# Altium footprint library AL11b.PcbLib: 10 footprints
Each footprint in its own frame and in the unit in brackets; x right, y up, seen from the top. Pads: shape width x height; smd on the part's side, far side on the other; paste and mask are expansions set on the pad; w line width, h text height; cw(c..) or ccw(c..) is an arc to the next point about the centre after c.
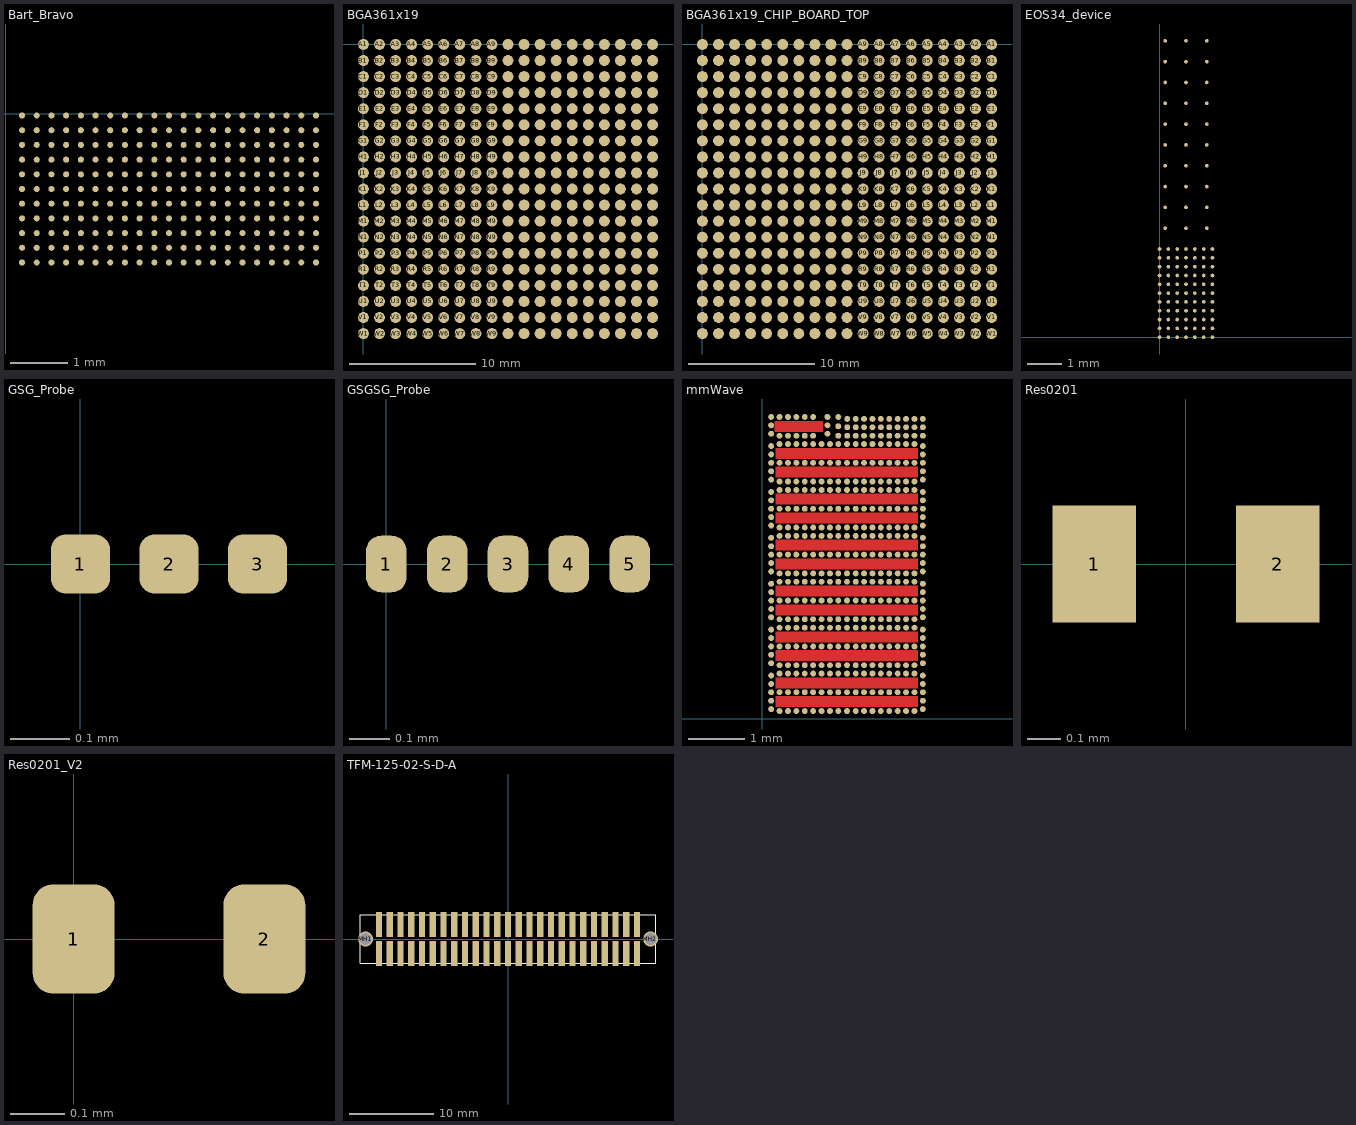
[diagram p0: the footprints below, top view; thin cyan lines are the x and y axes]

## Bart_Bravo [mm] "Footprint for the 11 row, 21 column pad array used in Bravo Bart designs"
height 0.1
pads (231):
  round 0.105 smd mask-0.015: A1(0.286,-0.032) A2(0.286,-0.286) A3(0.286,-0.54) A4(0.286,-0.794) A5(0.286,-1.048) A6(0.286,-1.302) A7(0.286,-1.556) A8(0.286,-1.81) A9(0.286,-2.064) A10(0.286,-2.318) A11(0.286,-2.572) B1(0.54,-0.032) B2(0.54,-0.286) B3(0.54,-0.54) B4(0.54,-0.794) B5(0.54,-1.048) B6(0.54,-1.302) B7(0.54,-1.556) B8(0.54,-1.81) B9(0.54,-2.064) B10(0.54,-2.318) B11(0.54,-2.572) C1(0.794,-0.032) C2(0.794,-0.286) C3(0.794,-0.54) C4(0.794,-0.794) C5(0.794,-1.048) C6(0.794,-1.302) C7(0.794,-1.556) C8(0.794,-1.81) C9(0.794,-2.064) C10(0.794,-2.318) C11(0.794,-2.572) D1(1.048,-0.032) D2(1.048,-0.286) D3(1.048,-0.54) D4(1.048,-0.794) D5(1.048,-1.048) D6(1.048,-1.302) D7(1.048,-1.556) D8(1.048,-1.81) D9(1.048,-2.064) D10(1.048,-2.318) D11(1.048,-2.572) E1(1.302,-0.032) E2(1.302,-0.286) E3(1.302,-0.54) E4(1.302,-0.794) E5(1.302,-1.048) E6(1.302,-1.302) E7(1.302,-1.556) E8(1.302,-1.81) E9(1.302,-2.064) E10(1.302,-2.318) E11(1.302,-2.572) F1(1.556,-0.032) F2(1.556,-0.286) F3(1.556,-0.54) F4(1.556,-0.794) F5(1.556,-1.048) F6(1.556,-1.302) F7(1.556,-1.556) F8(1.556,-1.81) F9(1.556,-2.064) F10(1.556,-2.318) F11(1.556,-2.572) G1(1.81,-0.032) G2(1.81,-0.286) G3(1.81,-0.54) G4(1.81,-0.794) G5(1.81,-1.048) G6(1.81,-1.302) G7(1.81,-1.556) G8(1.81,-1.81) G9(1.81,-2.064) G10(1.81,-2.318) G11(1.81,-2.572) H1(2.064,-0.032) H2(2.064,-0.286) H3(2.064,-0.54) H4(2.064,-0.794) H5(2.064,-1.048) H6(2.064,-1.302) H7(2.064,-1.556) H8(2.064,-1.81) H9(2.064,-2.064) H10(2.064,-2.318) H11(2.064,-2.572) I1(2.318,-0.032) I2(2.318,-0.286) I3(2.318,-0.54) I4(2.318,-0.794) I5(2.318,-1.048) I6(2.318,-1.302) I7(2.318,-1.556) I8(2.318,-1.81) I9(2.318,-2.064) I10(2.318,-2.318) I11(2.318,-2.572) J1(2.572,-0.032) J2(2.572,-0.286) J3(2.572,-0.54) J4(2.572,-0.794) J5(2.572,-1.048) J6(2.572,-1.302) J7(2.572,-1.556) J8(2.572,-1.81) J9(2.572,-2.064) J10(2.572,-2.318) J11(2.572,-2.572) K1(2.826,-0.032) K2(2.826,-0.286) K3(2.826,-0.54) K4(2.826,-0.794) K5(2.826,-1.048) K6(2.826,-1.302) K7(2.826,-1.556) K8(2.826,-1.81) K9(2.826,-2.064) K10(2.826,-2.318) K11(2.826,-2.572) L1(3.08,-0.032) L2(3.08,-0.286) L3(3.08,-0.54) L4(3.08,-0.794) L5(3.08,-1.048) L6(3.08,-1.302) L7(3.08,-1.556) L8(3.08,-1.81) L9(3.08,-2.064) L10(3.08,-2.318) L11(3.08,-2.572) M1(3.334,-0.032) M2(3.334,-0.286) M3(3.334,-0.54) M4(3.334,-0.794) M5(3.334,-1.048) M6(3.334,-1.302) M7(3.334,-1.556) M8(3.334,-1.81) M9(3.334,-2.064) M10(3.334,-2.318) M11(3.334,-2.572) N1(3.588,-0.032) N2(3.588,-0.286) N3(3.588,-0.54) N4(3.588,-0.794) N5(3.588,-1.048) N6(3.588,-1.302) N7(3.588,-1.556) N8(3.588,-1.81) N9(3.588,-2.064) N10(3.588,-2.318) N11(3.588,-2.572) O1(3.842,-0.032) O2(3.842,-0.286) O3(3.842,-0.54) O4(3.842,-0.794) O5(3.842,-1.048) O6(3.842,-1.302) O7(3.842,-1.556) O8(3.842,-1.81) O9(3.842,-2.064) O10(3.842,-2.318) O11(3.842,-2.572) P1(4.096,-0.032) P2(4.096,-0.286) P3(4.096,-0.54) P4(4.096,-0.794) P5(4.096,-1.048) P6(4.096,-1.302) P7(4.096,-1.556) P8(4.096,-1.81) P9(4.096,-2.064) P10(4.096,-2.318) P11(4.096,-2.572) Q1(4.35,-0.032) Q2(4.35,-0.286) Q3(4.35,-0.54) Q4(4.35,-0.794) Q5(4.35,-1.048) Q6(4.35,-1.302) Q7(4.35,-1.556) Q8(4.35,-1.81) Q9(4.35,-2.064) Q10(4.35,-2.318) Q11(4.35,-2.572) R1(4.604,-0.032) R2(4.604,-0.286) R3(4.604,-0.54) R4(4.604,-0.794) R5(4.604,-1.048) R6(4.604,-1.302) R7(4.604,-1.556) R8(4.604,-1.81) R9(4.604,-2.064) R10(4.604,-2.318) R11(4.604,-2.572) S1(4.858,-0.032) S2(4.858,-0.286) S3(4.858,-0.54) S4(4.858,-0.794) S5(4.858,-1.048) S6(4.858,-1.302) S7(4.858,-1.556) S8(4.858,-1.81) S9(4.858,-2.064) S10(4.858,-2.318) S11(4.858,-2.572) T1(5.112,-0.032) T2(5.112,-0.286) T3(5.112,-0.54) T4(5.112,-0.794) T5(5.112,-1.048) T6(5.112,-1.302) T7(5.112,-1.556) T8(5.112,-1.81) T9(5.112,-2.064) T10(5.112,-2.318) T11(5.112,-2.572) U1(5.366,-0.032) U2(5.366,-0.286) U3(5.366,-0.54) U4(5.366,-0.794) U5(5.366,-1.048) U6(5.366,-1.302) U7(5.366,-1.556) U8(5.366,-1.81) U9(5.366,-2.064) U10(5.366,-2.318) U11(5.366,-2.572)

## BGA361x19 [mm]
pads (361):
  round 0.86 smd mask-0.05: A1(0,0) A2(1.27,0) A3(2.54,0) A4(3.81,0) A5(5.08,0) A6(6.35,0) A7(7.62,0) A8(8.89,0) A9(10.16,0) A10(11.43,0) A11(12.7,0) A12(13.97,0) A13(15.24,0) A14(16.51,0) A15(17.78,0) A16(19.05,0) A17(20.32,0) A18(21.59,0) A19(22.86,0) B1(0,-1.27) B2(1.27,-1.27) B3(2.54,-1.27) B4(3.81,-1.27) B5(5.08,-1.27) B6(6.35,-1.27) B7(7.62,-1.27) B8(8.89,-1.27) B9(10.16,-1.27) B10(11.43,-1.27) B11(12.7,-1.27) B12(13.97,-1.27) B13(15.24,-1.27) B14(16.51,-1.27) B15(17.78,-1.27) B16(19.05,-1.27) B17(20.32,-1.27) B18(21.59,-1.27) B19(22.86,-1.27) C1(0,-2.54) C2(1.27,-2.54) C3(2.54,-2.54) C4(3.81,-2.54) C5(5.08,-2.54) C6(6.35,-2.54) C7(7.62,-2.54) C8(8.89,-2.54) C9(10.16,-2.54) C10(11.43,-2.54) C11(12.7,-2.54) C12(13.97,-2.54) C13(15.24,-2.54) C14(16.51,-2.54) C15(17.78,-2.54) C16(19.05,-2.54) C17(20.32,-2.54) C18(21.59,-2.54) C19(22.86,-2.54) D1(0,-3.81) D2(1.27,-3.81) D3(2.54,-3.81) D4(3.81,-3.81) D5(5.08,-3.81) D6(6.35,-3.81) D7(7.62,-3.81) D8(8.89,-3.81) D9(10.16,-3.81) D10(11.43,-3.81) D11(12.7,-3.81) D12(13.97,-3.81) D13(15.24,-3.81) D14(16.51,-3.81) D15(17.78,-3.81) D16(19.05,-3.81) D17(20.32,-3.81) D18(21.59,-3.81) D19(22.86,-3.81) E1(0,-5.08) E2(1.27,-5.08) E3(2.54,-5.08) E4(3.81,-5.08) E5(5.08,-5.08) E6(6.35,-5.08) E7(7.62,-5.08) E8(8.89,-5.08) E9(10.16,-5.08) E10(11.43,-5.08) E11(12.7,-5.08) E12(13.97,-5.08) E13(15.24,-5.08) E14(16.51,-5.08) E15(17.78,-5.08) E16(19.05,-5.08) E17(20.32,-5.08) E18(21.59,-5.08) E19(22.86,-5.08) F1(0,-6.35) F2(1.27,-6.35) F3(2.54,-6.35) F4(3.81,-6.35) F5(5.08,-6.35) F6(6.35,-6.35) F7(7.62,-6.35) F8(8.89,-6.35) F9(10.16,-6.35) F10(11.43,-6.35) F11(12.7,-6.35) F12(13.97,-6.35) F13(15.24,-6.35) F14(16.51,-6.35) F15(17.78,-6.35) F16(19.05,-6.35) F17(20.32,-6.35) F18(21.59,-6.35) F19(22.86,-6.35) G1(0,-7.62) G2(1.27,-7.62) G3(2.54,-7.62) G4(3.81,-7.62) G5(5.08,-7.62) G6(6.35,-7.62) G7(7.62,-7.62) G8(8.89,-7.62) G9(10.16,-7.62) G10(11.43,-7.62) G11(12.7,-7.62) G12(13.97,-7.62) G13(15.24,-7.62) G14(16.51,-7.62) G15(17.78,-7.62) G16(19.05,-7.62) G17(20.32,-7.62) G18(21.59,-7.62) G19(22.86,-7.62) H1(0,-8.89) H2(1.27,-8.89) H3(2.54,-8.89) H4(3.81,-8.89) H5(5.08,-8.89) H6(6.35,-8.89) H7(7.62,-8.89) H8(8.89,-8.89) H9(10.16,-8.89) H10(11.43,-8.89) H11(12.7,-8.89) H12(13.97,-8.89) H13(15.24,-8.89) H14(16.51,-8.89) H15(17.78,-8.89) H16(19.05,-8.89) H17(20.32,-8.89) H18(21.59,-8.89) H19(22.86,-8.89) J1(0,-10.16) J2(1.27,-10.16) J3(2.54,-10.16) J4(3.81,-10.16) J5(5.08,-10.16) J6(6.35,-10.16) J7(7.62,-10.16) J8(8.89,-10.16) J9(10.16,-10.16) J10(11.43,-10.16) J11(12.7,-10.16) J12(13.97,-10.16) J13(15.24,-10.16) J14(16.51,-10.16) J15(17.78,-10.16) J16(19.05,-10.16) J17(20.32,-10.16) J18(21.59,-10.16) J19(22.86,-10.16) K1(0,-11.43) K2(1.27,-11.43) K3(2.54,-11.43) K4(3.81,-11.43) K5(5.08,-11.43) K6(6.35,-11.43) K7(7.62,-11.43) K8(8.89,-11.43) K9(10.16,-11.43) K10(11.43,-11.43) K11(12.7,-11.43) K12(13.97,-11.43) K13(15.24,-11.43) K14(16.51,-11.43) K15(17.78,-11.43) K16(19.05,-11.43) K17(20.32,-11.43) K18(21.59,-11.43) K19(22.86,-11.43) L1(0,-12.7) L2(1.27,-12.7) L3(2.54,-12.7) L4(3.81,-12.7) L5(5.08,-12.7) L6(6.35,-12.7) L7(7.62,-12.7) L8(8.89,-12.7) L9(10.16,-12.7) L10(11.43,-12.7) L11(12.7,-12.7) L12(13.97,-12.7) L13(15.24,-12.7) L14(16.51,-12.7) L15(17.78,-12.7) L16(19.05,-12.7) L17(20.32,-12.7) L18(21.59,-12.7) L19(22.86,-12.7) M1(0,-13.97) M2(1.27,-13.97) M3(2.54,-13.97) M4(3.81,-13.97) M5(5.08,-13.97) M6(6.35,-13.97) M7(7.62,-13.97) M8(8.89,-13.97) M9(10.16,-13.97) M10(11.43,-13.97) M11(12.7,-13.97) M12(13.97,-13.97) M13(15.24,-13.97) M14(16.51,-13.97) M15(17.78,-13.97) M16(19.05,-13.97) M17(20.32,-13.97) M18(21.59,-13.97) M19(22.86,-13.97) N1(0,-15.24) N2(1.27,-15.24) N3(2.54,-15.24) N4(3.81,-15.24) N5(5.08,-15.24) N6(6.35,-15.24) N7(7.62,-15.24) N8(8.89,-15.24) N9(10.16,-15.24) N10(11.43,-15.24) N11(12.7,-15.24) N12(13.97,-15.24) N13(15.24,-15.24) N14(16.51,-15.24) N15(17.78,-15.24) N16(19.05,-15.24) N17(20.32,-15.24) N18(21.59,-15.24) N19(22.86,-15.24) P1(0,-16.51) P2(1.27,-16.51) P3(2.54,-16.51) P4(3.81,-16.51) P5(5.08,-16.51) P6(6.35,-16.51) P7(7.62,-16.51) P8(8.89,-16.51) P9(10.16,-16.51) P10(11.43,-16.51) P11(12.7,-16.51) P12(13.97,-16.51) P13(15.24,-16.51) P14(16.51,-16.51) P15(17.78,-16.51) P16(19.05,-16.51) P17(20.32,-16.51) P18(21.59,-16.51) P19(22.86,-16.51) R1(0,-17.78) R2(1.27,-17.78) R3(2.54,-17.78) R4(3.81,-17.78) R5(5.08,-17.78) R6(6.35,-17.78) R7(7.62,-17.78) R8(8.89,-17.78) R9(10.16,-17.78) R10(11.43,-17.78) R11(12.7,-17.78) R12(13.97,-17.78) R13(15.24,-17.78) R14(16.51,-17.78) R15(17.78,-17.78) R16(19.05,-17.78) R17(20.32,-17.78) R18(21.59,-17.78) R19(22.86,-17.78) T1(0,-19.05) T2(1.27,-19.05) T3(2.54,-19.05) T4(3.81,-19.05) T5(5.08,-19.05) T6(6.35,-19.05) T7(7.62,-19.05) T8(8.89,-19.05) T9(10.16,-19.05) T10(11.43,-19.05) T11(12.7,-19.05) T12(13.97,-19.05) T13(15.24,-19.05) T14(16.51,-19.05) T15(17.78,-19.05) T16(19.05,-19.05) T17(20.32,-19.05) T18(21.59,-19.05) T19(22.86,-19.05) U1(0,-20.32) U2(1.27,-20.32) U3(2.54,-20.32) U4(3.81,-20.32) U5(5.08,-20.32) U6(6.35,-20.32) U7(7.62,-20.32) U8(8.89,-20.32) U9(10.16,-20.32) U10(11.43,-20.32) U11(12.7,-20.32) U12(13.97,-20.32) U13(15.24,-20.32) U14(16.51,-20.32) U15(17.78,-20.32) U16(19.05,-20.32) U17(20.32,-20.32) U18(21.59,-20.32) U19(22.86,-20.32) V1(0,-21.59) V2(1.27,-21.59) V3(2.54,-21.59) V4(3.81,-21.59) V5(5.08,-21.59) V6(6.35,-21.59) V7(7.62,-21.59) V8(8.89,-21.59) V9(10.16,-21.59) V10(11.43,-21.59) V11(12.7,-21.59) V12(13.97,-21.59) V13(15.24,-21.59) V14(16.51,-21.59) V15(17.78,-21.59) V16(19.05,-21.59) V17(20.32,-21.59) V18(21.59,-21.59) V19(22.86,-21.59) W1(0,-22.86) W2(1.27,-22.86) W3(2.54,-22.86) W4(3.81,-22.86) W5(5.08,-22.86) W6(6.35,-22.86) W7(7.62,-22.86) W8(8.89,-22.86) W9(10.16,-22.86) W10(11.43,-22.86) W11(12.7,-22.86) W12(13.97,-22.86) W13(15.24,-22.86) W14(16.51,-22.86) W15(17.78,-22.86) W16(19.05,-22.86) W17(20.32,-22.86) W18(21.59,-22.86) W19(22.86,-22.86)

## BGA361x19_CHIP_BOARD_TOP [mm]
pads (361):
  round 0.86 smd mask-0.05: A1(22.86,0) A2(21.59,0) A3(20.32,0) A4(19.05,0) A5(17.78,0) A6(16.51,0) A7(15.24,0) A8(13.97,0) A9(12.7,0) A10(11.43,0) A11(10.16,0) A12(8.89,0) A13(7.62,0) A14(6.35,0) A15(5.08,0) A16(3.81,0) A17(2.54,0) A18(1.27,0) A19(0,0) B1(22.86,-1.27) B2(21.59,-1.27) B3(20.32,-1.27) B4(19.05,-1.27) B5(17.78,-1.27) B6(16.51,-1.27) B7(15.24,-1.27) B8(13.97,-1.27) B9(12.7,-1.27) B10(11.43,-1.27) B11(10.16,-1.27) B12(8.89,-1.27) B13(7.62,-1.27) B14(6.35,-1.27) B15(5.08,-1.27) B16(3.81,-1.27) B17(2.54,-1.27) B18(1.27,-1.27) B19(0,-1.27) C1(22.86,-2.54) C2(21.59,-2.54) C3(20.32,-2.54) C4(19.05,-2.54) C5(17.78,-2.54) C6(16.51,-2.54) C7(15.24,-2.54) C8(13.97,-2.54) C9(12.7,-2.54) C10(11.43,-2.54) C11(10.16,-2.54) C12(8.89,-2.54) C13(7.62,-2.54) C14(6.35,-2.54) C15(5.08,-2.54) C16(3.81,-2.54) C17(2.54,-2.54) C18(1.27,-2.54) C19(0,-2.54) D1(22.86,-3.81) D2(21.59,-3.81) D3(20.32,-3.81) D4(19.05,-3.81) D5(17.78,-3.81) D6(16.51,-3.81) D7(15.24,-3.81) D8(13.97,-3.81) D9(12.7,-3.81) D10(11.43,-3.81) D11(10.16,-3.81) D12(8.89,-3.81) D13(7.62,-3.81) D14(6.35,-3.81) D15(5.08,-3.81) D16(3.81,-3.81) D17(2.54,-3.81) D18(1.27,-3.81) D19(0,-3.81) E1(22.86,-5.08) E2(21.59,-5.08) E3(20.32,-5.08) E4(19.05,-5.08) E5(17.78,-5.08) E6(16.51,-5.08) E7(15.24,-5.08) E8(13.97,-5.08) E9(12.7,-5.08) E10(11.43,-5.08) E11(10.16,-5.08) E12(8.89,-5.08) E13(7.62,-5.08) E14(6.35,-5.08) E15(5.08,-5.08) E16(3.81,-5.08) E17(2.54,-5.08) E18(1.27,-5.08) E19(0,-5.08) F1(22.86,-6.35) F2(21.59,-6.35) F3(20.32,-6.35) F4(19.05,-6.35) F5(17.78,-6.35) F6(16.51,-6.35) F7(15.24,-6.35) F8(13.97,-6.35) F9(12.7,-6.35) F10(11.43,-6.35) F11(10.16,-6.35) F12(8.89,-6.35) F13(7.62,-6.35) F14(6.35,-6.35) F15(5.08,-6.35) F16(3.81,-6.35) F17(2.54,-6.35) F18(1.27,-6.35) F19(0,-6.35) G1(22.86,-7.62) G2(21.59,-7.62) G3(20.32,-7.62) G4(19.05,-7.62) G5(17.78,-7.62) G6(16.51,-7.62) G7(15.24,-7.62) G8(13.97,-7.62) G9(12.7,-7.62) G10(11.43,-7.62) G11(10.16,-7.62) G12(8.89,-7.62) G13(7.62,-7.62) G14(6.35,-7.62) G15(5.08,-7.62) G16(3.81,-7.62) G17(2.54,-7.62) G18(1.27,-7.62) G19(0,-7.62) H1(22.86,-8.89) H2(21.59,-8.89) H3(20.32,-8.89) H4(19.05,-8.89) H5(17.78,-8.89) H6(16.51,-8.89) H7(15.24,-8.89) H8(13.97,-8.89) H9(12.7,-8.89) H10(11.43,-8.89) H11(10.16,-8.89) H12(8.89,-8.89) H13(7.62,-8.89) H14(6.35,-8.89) H15(5.08,-8.89) H16(3.81,-8.89) H17(2.54,-8.89) H18(1.27,-8.89) H19(0,-8.89) J1(22.86,-10.16) J2(21.59,-10.16) J3(20.32,-10.16) J4(19.05,-10.16) J5(17.78,-10.16) J6(16.51,-10.16) J7(15.24,-10.16) J8(13.97,-10.16) J9(12.7,-10.16) J10(11.43,-10.16) J11(10.16,-10.16) J12(8.89,-10.16) J13(7.62,-10.16) J14(6.35,-10.16) J15(5.08,-10.16) J16(3.81,-10.16) J17(2.54,-10.16) J18(1.27,-10.16) J19(0,-10.16) K1(22.86,-11.43) K2(21.59,-11.43) K3(20.32,-11.43) K4(19.05,-11.43) K5(17.78,-11.43) K6(16.51,-11.43) K7(15.24,-11.43) K8(13.97,-11.43) K9(12.7,-11.43) K10(11.43,-11.43) K11(10.16,-11.43) K12(8.89,-11.43) K13(7.62,-11.43) K14(6.35,-11.43) K15(5.08,-11.43) K16(3.81,-11.43) K17(2.54,-11.43) K18(1.27,-11.43) K19(0,-11.43) L1(22.86,-12.7) L2(21.59,-12.7) L3(20.32,-12.7) L4(19.05,-12.7) L5(17.78,-12.7) L6(16.51,-12.7) L7(15.24,-12.7) L8(13.97,-12.7) L9(12.7,-12.7) L10(11.43,-12.7) L11(10.16,-12.7) L12(8.89,-12.7) L13(7.62,-12.7) L14(6.35,-12.7) L15(5.08,-12.7) L16(3.81,-12.7) L17(2.54,-12.7) L18(1.27,-12.7) L19(0,-12.7) M1(22.86,-13.97) M2(21.59,-13.97) M3(20.32,-13.97) M4(19.05,-13.97) M5(17.78,-13.97) M6(16.51,-13.97) M7(15.24,-13.97) M8(13.97,-13.97) M9(12.7,-13.97) M10(11.43,-13.97) M11(10.16,-13.97) M12(8.89,-13.97) M13(7.62,-13.97) M14(6.35,-13.97) M15(5.08,-13.97) M16(3.81,-13.97) M17(2.54,-13.97) M18(1.27,-13.97) M19(0,-13.97) N1(22.86,-15.24) N2(21.59,-15.24) N3(20.32,-15.24) N4(19.05,-15.24) N5(17.78,-15.24) N6(16.51,-15.24) N7(15.24,-15.24) N8(13.97,-15.24) N9(12.7,-15.24) N10(11.43,-15.24) N11(10.16,-15.24) N12(8.89,-15.24) N13(7.62,-15.24) N14(6.35,-15.24) N15(5.08,-15.24) N16(3.81,-15.24) N17(2.54,-15.24) N18(1.27,-15.24) N19(0,-15.24) P1(22.86,-16.51) P2(21.59,-16.51) P3(20.32,-16.51) P4(19.05,-16.51) P5(17.78,-16.51) P6(16.51,-16.51) P7(15.24,-16.51) P8(13.97,-16.51) P9(12.7,-16.51) P10(11.43,-16.51) P11(10.16,-16.51) P12(8.89,-16.51) P13(7.62,-16.51) P14(6.35,-16.51) P15(5.08,-16.51) P16(3.81,-16.51) P17(2.54,-16.51) P18(1.27,-16.51) P19(0,-16.51) R1(22.86,-17.78) R2(21.59,-17.78) R3(20.32,-17.78) R4(19.05,-17.78) R5(17.78,-17.78) R6(16.51,-17.78) R7(15.24,-17.78) R8(13.97,-17.78) R9(12.7,-17.78) R10(11.43,-17.78) R11(10.16,-17.78) R12(8.89,-17.78) R13(7.62,-17.78) R14(6.35,-17.78) R15(5.08,-17.78) R16(3.81,-17.78) R17(2.54,-17.78) R18(1.27,-17.78) R19(0,-17.78) T1(22.86,-19.05) T2(21.59,-19.05) T3(20.32,-19.05) T4(19.05,-19.05) T5(17.78,-19.05) T6(16.51,-19.05) T7(15.24,-19.05) T8(13.97,-19.05) T9(12.7,-19.05) T10(11.43,-19.05) T11(10.16,-19.05) T12(8.89,-19.05) T13(7.62,-19.05) T14(6.35,-19.05) T15(5.08,-19.05) T16(3.81,-19.05) T17(2.54,-19.05) T18(1.27,-19.05) T19(0,-19.05) U1(22.86,-20.32) U2(21.59,-20.32) U3(20.32,-20.32) U4(19.05,-20.32) U5(17.78,-20.32) U6(16.51,-20.32) U7(15.24,-20.32) U8(13.97,-20.32) U9(12.7,-20.32) U10(11.43,-20.32) U11(10.16,-20.32) U12(8.89,-20.32) U13(7.62,-20.32) U14(6.35,-20.32) U15(5.08,-20.32) U16(3.81,-20.32) U17(2.54,-20.32) U18(1.27,-20.32) U19(0,-20.32) V1(22.86,-21.59) V2(21.59,-21.59) V3(20.32,-21.59) V4(19.05,-21.59) V5(17.78,-21.59) V6(16.51,-21.59) V7(15.24,-21.59) V8(13.97,-21.59) V9(12.7,-21.59) V10(11.43,-21.59) V11(10.16,-21.59) V12(8.89,-21.59) V13(7.62,-21.59) V14(6.35,-21.59) V15(5.08,-21.59) V16(3.81,-21.59) V17(2.54,-21.59) V18(1.27,-21.59) V19(0,-21.59) W1(22.86,-22.86) W2(21.59,-22.86) W3(20.32,-22.86) W4(19.05,-22.86) W5(17.78,-22.86) W6(16.51,-22.86) W7(15.24,-22.86) W8(13.97,-22.86) W9(12.7,-22.86) W10(11.43,-22.86) W11(10.16,-22.86) W12(8.89,-22.86) W13(7.62,-22.86) W14(6.35,-22.86) W15(5.08,-22.86) W16(3.81,-22.86) W17(2.54,-22.86) W18(1.27,-22.86) W19(0,-22.86)

## EOS34_device [mm]
pads (107):
  round 0.105 smd mask-0.015: A1(1.524,0) A2(1.524,0.254) A3(1.524,0.508) A4(1.524,0.762) A5(1.524,1.016) A6(1.524,1.27) A7(1.524,1.524) A8(1.524,1.778) A9(1.524,2.032) A10(1.524,2.286) A11(1.524,2.54) B1(1.27,0) B2(1.27,0.254) B3(1.27,0.508) B4(1.27,0.762) B5(1.27,1.016) B6(1.27,1.27) B7(1.27,1.524) B8(1.27,1.778) B9(1.27,2.032) B10(1.27,2.286) B11(1.27,2.54) C1(1.016,0) C2(1.016,0.254) C3(1.016,0.508) C4(1.016,0.762) C5(1.016,1.016) C6(1.016,1.27) C7(1.016,1.524) C8(1.016,1.778) C9(1.016,2.032) C10(1.016,2.286) C11(1.016,2.54) D1(0.762,0) D2(0.762,0.254) D3(0.762,0.508) D4(0.762,0.762) D5(0.762,1.016) D6(0.762,1.27) D7(0.762,1.524) D8(0.762,1.778) D9(0.762,2.032) D10(0.762,2.286) D11(0.762,2.54) E1(0.508,0) E2(0.508,0.254) E3(0.508,0.508) E4(0.508,0.762) E5(0.508,1.016) E6(0.508,1.27) E7(0.508,1.524) E8(0.508,1.778) E9(0.508,2.032) E10(0.508,2.286) E11(0.508,2.54) F1(0.254,0) F2(0.254,0.254) F3(0.254,0.508) F4(0.254,0.762) F5(0.254,1.016) F6(0.254,1.27) F7(0.254,1.524) F8(0.254,1.778) F9(0.254,2.032) F10(0.254,2.286) F11(0.254,2.54) G1(0,0) G2(0,0.254) G3(0,0.508) G4(0,0.762) G5(0,1.016) G6(0,1.27) G7(0,1.524) G8(0,1.778) G9(0,2.032) G10(0,2.286) G11(0,2.54) X1(0.161,3.14) X2(0.161,3.74) X3(0.161,4.34) X4(0.161,4.94) X5(0.161,5.54) X6(0.161,6.14) X7(0.161,6.74) X8(0.161,7.34) X9(0.161,7.94) X10(0.161,8.54) Y1(0.761,3.14) Y2(0.761,3.74) Y3(0.761,4.34) Y4(0.761,4.94) Y5(0.761,5.54) Y6(0.761,6.14) Y7(0.761,6.74) Y8(0.761,7.34) Y9(0.761,7.94) Y10(0.761,8.54) Z1(1.361,3.14) Z2(1.361,3.74) Z3(1.361,4.34) Z4(1.361,4.94) Z5(1.361,5.54) Z6(1.361,6.14) Z7(1.361,6.74) Z8(1.361,7.34) Z9(1.361,7.94) Z10(1.361,8.54)

## GSG_Probe [mm] "150um pitch GSG probe pads"
pads (3):
  rrect50% 0.1x0.1 smd mask-1: 1(0,0) 2(0.15,0) 3(0.3,0)
Top Solder:
  region: 0.27,-0.015 0.27,0.015 0.27,0.018 0.273,0.023 0.277,0.027 0.282,0.03 0.285,0.03 0.315,0.03 0.318,0.03 0.323,0.027 0.327,0.023 0.33,0.018 0.33,0.015 0.33,-0.015 0.33,-0.018 0.327,-0.023 0.323,-0.027 0.318,-0.03 0.315,-0.03 0.285,-0.03 0.282,-0.03 0.277,-0.027 0.273,-0.023 0.27,-0.018
  region: 0.12,-0.015 0.12,0.015 0.12,0.018 0.123,0.023 0.127,0.027 0.132,0.03 0.135,0.03 0.165,0.03 0.168,0.03 0.173,0.027 0.177,0.023 0.18,0.018 0.18,0.015 0.18,-0.015 0.18,-0.018 0.177,-0.023 0.173,-0.027 0.168,-0.03 0.165,-0.03 0.135,-0.03 0.132,-0.03 0.127,-0.027 0.123,-0.023 0.12,-0.018
  region: -0.03,-0.015 -0.03,0.015 -0.03,0.018 -0.027,0.023 -0.023,0.027 -0.018,0.03 -0.015,0.03 0.015,0.03 0.018,0.03 0.023,0.027 0.027,0.023 0.03,0.018 0.03,0.015 0.03,-0.015 0.03,-0.018 0.027,-0.023 0.023,-0.027 0.018,-0.03 0.015,-0.03 -0.015,-0.03 -0.018,-0.03 -0.023,-0.027 -0.027,-0.023 -0.03,-0.018

## GSGSG_Probe [mm] "150um pitch dual GSG probe pads"
pads (5):
  rrect75% 0.1x0.14 smd mask-1: 1(0,0) 2(0.15,0) 3(0.3,0) 4(0.45,0) 5(0.6,0)
Top Solder:
  region: 0.57,-0.035 0.57,0.035 0.57,0.038 0.573,0.043 0.577,0.047 0.582,0.05 0.585,0.05 0.615,0.05 0.618,0.05 0.623,0.047 0.627,0.043 0.63,0.038 0.63,0.035 0.63,-0.035 0.63,-0.038 0.627,-0.043 0.623,-0.047 0.618,-0.05 0.615,-0.05 0.585,-0.05 0.582,-0.05 0.577,-0.047 0.573,-0.043 0.57,-0.038
  region: 0.42,-0.035 0.42,0.035 0.42,0.038 0.423,0.043 0.427,0.047 0.432,0.05 0.435,0.05 0.465,0.05 0.468,0.05 0.473,0.047 0.477,0.043 0.48,0.038 0.48,0.035 0.48,-0.035 0.48,-0.038 0.477,-0.043 0.473,-0.047 0.468,-0.05 0.465,-0.05 0.435,-0.05 0.432,-0.05 0.427,-0.047 0.423,-0.043 0.42,-0.038
  region: 0.27,-0.035 0.27,0.035 0.27,0.038 0.273,0.043 0.277,0.047 0.282,0.05 0.285,0.05 0.315,0.05 0.318,0.05 0.323,0.047 0.327,0.043 0.33,0.038 0.33,0.035 0.33,-0.035 0.33,-0.038 0.327,-0.043 0.323,-0.047 0.318,-0.05 0.315,-0.05 0.285,-0.05 0.282,-0.05 0.277,-0.047 0.273,-0.043 0.27,-0.038
  region: 0.12,-0.035 0.12,0.035 0.12,0.038 0.123,0.043 0.127,0.047 0.132,0.05 0.135,0.05 0.165,0.05 0.168,0.05 0.173,0.047 0.177,0.043 0.18,0.038 0.18,0.035 0.18,-0.035 0.18,-0.038 0.177,-0.043 0.173,-0.047 0.168,-0.05 0.165,-0.05 0.135,-0.05 0.132,-0.05 0.127,-0.047 0.123,-0.043 0.12,-0.038
  region: -0.03,-0.035 -0.03,0.035 -0.03,0.038 -0.027,0.043 -0.023,0.047 -0.018,0.05 -0.015,0.05 0.015,0.05 0.018,0.05 0.023,0.047 0.027,0.043 0.03,0.038 0.03,0.035 0.03,-0.035 0.03,-0.038 0.027,-0.043 0.023,-0.047 0.018,-0.05 0.015,-0.05 -0.015,-0.05 -0.018,-0.05 -0.023,-0.047 -0.027,-0.043 -0.03,-0.038

## mmWave [mm] "mmwave die"
height 0.02
pads (415):
  round 0.105 smd mask-0.015: 1(0.31,0.138) 2(0.46,0.138) 3(0.61,0.138) 4(0.76,0.138) 5(0.91,0.138) 6(1.06,0.138) 7(1.21,0.138) 8(1.36,0.138) 9(0.31,0.473) 10(0.46,0.473) 11(0.61,0.473) 12(0.76,0.473) 13(0.91,0.473) 14(1.06,0.473) 15(1.21,0.473) 16(1.36,0.473) 17(0.31,0.808) 18(0.46,0.808) 19(0.61,0.808) 20(0.76,0.808) 21(0.91,0.808) 22(1.06,0.808) 23(1.21,0.808) 24(1.36,0.808) 25(0.16,0.473) 26(0.16,0.323) 27(0.16,0.623) 28(0.16,0.173) 29(0.16,0.773) 30(0.31,0.958) 31(0.46,0.958) 32(0.61,0.958) 33(0.76,0.958) 34(0.91,0.958) 35(1.06,0.958) 36(1.21,0.958) 37(1.36,0.958) 38(0.31,1.293) 39(0.46,1.293) 40(0.61,1.293) 41(0.76,1.293) 42(0.91,1.293) 43(1.06,1.293) 44(1.21,1.293) 45(1.36,1.293) 46(0.31,1.628) 47(0.46,1.628) 48(0.61,1.628) 49(0.76,1.628) 50(0.91,1.628) 51(1.06,1.628) 52(1.21,1.628) 53(1.36,1.628) 54(0.16,1.293) 55(0.16,1.143) 56(0.16,1.443) 57(0.16,0.993) 58(0.16,1.593) 59(0.31,1.778) 60(0.46,1.778) 61(0.61,1.778) 62(0.76,1.778) 63(0.91,1.778) 64(1.06,1.778) 65(1.21,1.778) 66(1.36,1.778) 67(0.31,2.113) 68(0.46,2.113) 69(0.61,2.113) 70(0.76,2.113) 71(0.91,2.113) 72(1.06,2.113) 73(1.21,2.113) 74(1.36,2.113) 75(0.31,2.448) 76(0.46,2.448) 77(0.61,2.448) 78(0.76,2.448) 79(0.91,2.448) 80(1.06,2.448) 81(1.21,2.448) 82(1.36,2.448) 83(0.16,2.113) 84(0.16,1.963) 85(0.16,2.263) 86(0.16,1.813) 87(0.16,2.413) 88(0.31,2.598) 89(0.46,2.598) 90(0.61,2.598) 91(0.76,2.598) 92(0.91,2.598) 93(1.06,2.598) 94(1.21,2.598) 95(1.36,2.598) 96(0.31,2.933) 97(0.46,2.933) 98(0.61,2.933) 99(0.76,2.933) 100(0.91,2.933) 101(1.06,2.933) 102(1.21,2.933) 103(1.36,2.933) 104(0.31,3.268) 105(0.46,3.268) 106(0.61,3.268) 107(0.76,3.268) 108(0.91,3.268) 109(1.06,3.268) 110(1.21,3.268) 111(1.36,3.268) 112(0.16,2.933) 113(0.16,2.783) 114(0.16,3.083) 115(0.16,2.633) 116(0.16,3.233) 117(0.31,3.418) 118(0.46,3.418) 119(0.61,3.418) 120(0.76,3.418) 121(0.91,3.418) 122(1.06,3.418) 123(1.21,3.418) 124(1.36,3.418) 125(0.31,3.753) 126(0.46,3.753) 127(0.61,3.753) 128(0.76,3.753) 129(0.91,3.753) 130(1.06,3.753) 131(1.21,3.753) 132(1.36,3.753) 133(0.31,4.088) 134(0.46,4.088) 135(0.61,4.088) 136(0.76,4.088) 137(0.91,4.088) 138(1.06,4.088) 139(1.21,4.088) 140(1.36,4.088) 141(0.16,3.753) 142(0.16,3.603) 143(0.16,3.903) 144(0.16,3.453) 145(0.16,4.053) 146(0.31,4.238) 147(0.46,4.238) 148(0.61,4.238) 149(0.76,4.238) 150(0.91,4.238) 151(1.06,4.238) 152(1.21,4.238) 153(1.36,4.238) 154(0.31,4.573) 155(0.46,4.573) 156(0.61,4.573) 157(0.76,4.573) 158(0.91,4.573) 159(1.06,4.573) 160(1.21,4.573) 161(1.36,4.573) 162(0.31,4.908) 163(0.46,4.908) 164(0.61,4.908) 165(0.76,4.908) 166(0.91,4.908) 167(1.06,4.908) 168(1.21,4.908) 169(1.36,4.908) 170(0.16,4.573) 171(0.16,4.423) 172(0.16,4.723) 173(0.16,4.273) 174(0.16,4.873) 175(2.72,0.138) 176(2.57,0.138) 177(2.42,0.138) 178(2.27,0.138) 179(2.12,0.138) 180(1.97,0.138) 181(1.82,0.138) 182(1.67,0.138) 183(2.72,0.473) 184(2.57,0.473) 185(2.42,0.473) 186(2.27,0.473) 187(2.12,0.473) 188(1.97,0.473) 189(1.82,0.473) 190(1.67,0.473) 191(2.72,0.808) 192(2.57,0.808) 193(2.42,0.808) 194(2.27,0.808) 195(2.12,0.808) 196(1.97,0.808) 197(1.82,0.808) 198(1.67,0.808) 199(2.87,0.473) 200(2.87,0.323) 201(2.87,0.623) 202(2.87,0.173) 203(2.87,0.773) 204(2.72,0.958) 205(2.57,0.958) 206(2.42,0.958) 207(2.27,0.958) 208(2.12,0.958) 209(1.97,0.958) 210(1.82,0.958) 211(1.67,0.958) 212(2.72,1.293) 213(2.57,1.293) 214(2.42,1.293) 215(2.27,1.293) 216(2.12,1.293) 217(1.97,1.293) 218(1.82,1.293) 219(1.67,1.293) 220(2.72,1.628) 221(2.57,1.628) 222(2.42,1.628) 223(2.27,1.628) 224(2.12,1.628) 225(1.97,1.628) 226(1.82,1.628) 227(1.67,1.628) 228(2.87,1.293) 229(2.87,1.143) 230(2.87,1.443) 231(2.87,0.993) 232(2.87,1.593) 233(2.72,1.778) 234(2.57,1.778) 235(2.42,1.778) 236(2.27,1.778) 237(2.12,1.778) 238(1.97,1.778) 239(1.82,1.778) 240(1.67,1.778) 241(2.72,2.113) 242(2.57,2.113) 243(2.42,2.113) 244(2.27,2.113) 245(2.12,2.113) 246(1.97,2.113) 247(1.82,2.113) 248(1.67,2.113) 249(2.72,2.448) 250(2.57,2.448) 251(2.42,2.448) 252(2.27,2.448) 253(2.12,2.448) 254(1.97,2.448) 255(1.82,2.448) 256(1.67,2.448) 257(2.87,2.113) 258(2.87,1.963) 259(2.87,2.263) 260(2.87,1.813) 261(2.87,2.413) 262(2.72,2.598) 263(2.57,2.598) 264(2.42,2.598) 265(2.27,2.598) 266(2.12,2.598) 267(1.97,2.598) 268(1.82,2.598) 269(1.67,2.598) 270(2.72,2.933) 271(2.57,2.933) 272(2.42,2.933) 273(2.27,2.933) 274(2.12,2.933) 275(1.97,2.933) 276(1.82,2.933) 277(1.67,2.933) 278(2.72,3.268) 279(2.57,3.268) 280(2.42,3.268) 281(2.27,3.268) 282(2.12,3.268) 283(1.97,3.268) 284(1.82,3.268) 285(1.67,3.268) 286(2.87,2.933) 287(2.87,2.783) 288(2.87,3.083) 289(2.87,2.633) 290(2.87,3.233) 291(2.72,3.418) 292(2.57,3.418) 293(2.42,3.418) 294(2.27,3.418) 295(2.12,3.418) 296(1.97,3.418) 297(1.82,3.418) 298(1.67,3.418) 299(2.72,3.753) 300(2.57,3.753) 301(2.42,3.753) 302(2.27,3.753) 303(2.12,3.753) 304(1.97,3.753) 305(1.82,3.753) 306(1.67,3.753) 307(2.72,4.088) 308(2.57,4.088) 309(2.42,4.088) 310(2.27,4.088) 311(2.12,4.088) 312(1.97,4.088) 313(1.82,4.088) 314(1.67,4.088) 315(2.87,3.753) 316(2.87,3.603) 317(2.87,3.903) 318(2.87,3.453) 319(2.87,4.053) 320(2.72,4.238) 321(2.57,4.238) 322(2.42,4.238) 323(2.27,4.238) 324(2.12,4.238) 325(1.97,4.238) 326(1.82,4.238) 327(1.67,4.238) 328(2.72,4.573) 329(2.57,4.573) 330(2.42,4.573) 331(2.27,4.573) 332(2.12,4.573) 333(1.97,4.573) 334(1.82,4.573) 335(1.67,4.573) 336(2.72,4.908) 337(2.57,4.908) 338(2.42,4.908) 339(2.27,4.908) 340(2.12,4.908) 341(1.97,4.908) 342(1.82,4.908) 343(1.67,4.908) 344(2.87,4.573) 345(2.87,4.423) 346(2.87,4.723) 347(2.87,4.273) 348(2.87,4.873) 349(1.515,0.138) 350(1.515,0.473) 351(1.515,0.808) 352(1.515,0.958) 353(1.515,1.293) 354(1.515,1.628) 355(1.515,1.778) 356(1.515,2.113) 357(1.515,2.448) 358(1.515,2.598) 359(1.515,2.933) 360(1.515,3.268) 361(1.515,3.418) 362(1.515,3.753) 363(1.515,4.088) 364(1.515,4.238) 365(1.515,4.573) 366(1.515,4.908) 367(2.87,5.058) 368(2.87,5.208) 369(2.87,5.358) 370(2.72,5.058) 371(2.72,5.208) 372(2.72,5.358) 373(2.57,5.058) 374(2.57,5.208) 375(2.57,5.358) 376(2.42,5.058) 377(2.42,5.208) 378(2.42,5.358) 379(2.27,5.058) 380(2.27,5.208) 381(2.27,5.358) 382(2.12,5.058) 383(2.12,5.208) 384(2.12,5.358) 385(1.97,5.058) 386(1.97,5.208) 387(1.97,5.358) 388(1.82,5.058) 389(1.82,5.208) 390(1.82,5.358) 391(1.67,5.058) 392(1.67,5.208) 393(1.67,5.358) 394(1.52,5.058) 395(1.52,5.208) 396(1.52,5.358) 397(1.36,5.058) 398(1.36,5.225) 399(1.36,5.393) 400(0.31,5.058) 401(0.46,5.058) 402(0.61,5.058) 403(0.76,5.058) 404(0.91,5.058) 405(0.31,5.393) 406(0.46,5.393) 407(0.61,5.393) 408(0.76,5.393) 409(0.91,5.393) 410(0.16,5.393) 411(0.16,5.243) 412(0.16,5.093) 413(1.166,5.393) 414(1.166,5.243) 415(1.166,5.093)
Top Layer:
  pour cut-out: 0.224,5.319 0.224,5.132 1.084,5.132 1.084,5.319
  pour cut-out: 0.239,4.836 0.239,4.649 2.782,4.649 2.782,4.836
  pour cut-out: 0.239,4.501 0.239,4.314 2.782,4.314 2.782,4.501
  pour cut-out: 0.239,4.016 0.239,3.829 2.782,3.829 2.782,4.016
  pour cut-out: 0.239,3.681 0.239,3.494 2.782,3.494 2.782,3.681
  pour cut-out: 0.239,3.196 0.239,3.009 2.782,3.009 2.782,3.196
  pour cut-out: 0.239,2.861 0.239,2.674 2.782,2.674 2.782,2.861
  pour cut-out: 0.239,2.376 0.239,2.189 2.782,2.189 2.782,2.376
  pour cut-out: 0.239,2.041 0.239,1.854 2.782,1.854 2.782,2.041
  pour cut-out: 0.239,1.556 0.239,1.369 2.782,1.369 2.782,1.556
  pour cut-out: 0.239,1.221 0.239,1.034 2.782,1.034 2.782,1.221
  pour cut-out: 0.239,0.736 0.239,0.549 2.782,0.549 2.782,0.736
  pour cut-out: 0.239,0.401 0.239,0.214 2.782,0.214 2.782,0.401

## Res0201 [mm]
height 0.1
pads (2):
  rect 0.25x0.35 smd mask+0.102: 1(-0.275,0) 2(0.275,0)

## Res0201_V2 [mm]
pads (2):
  rrect50% 0.15x0.2 smd mask-0.02: 1(0,0) 2(0.35,0)

## TFM-125-02-S-D-A [mil]
pads (52):
  rect 29x115 smd: 1(-600,-67.5) 2(-600,67.5) 3(-550,-67.5) 4(-550,67.5) 5(-500,-67.5) 6(-500,67.5) 7(-450,-67.5) 8(-450,67.5) 9(-400,-67.5) 10(-400,67.5) 11(-350,-67.5) 12(-350,67.5) 13(-300,-67.5) 14(-300,67.5) 15(-250,-67.5) 16(-250,67.5) 17(-200,-67.5) 18(-200,67.5) 19(-150,-67.5) 20(-150,67.5) 21(-100,-67.5) 22(-100,67.5) 23(-50,-67.5) 24(-50,67.5) 25(0,-67.5) 26(0,67.5) 27(50,-67.5) 28(50,67.5) 29(100,-67.5) 30(100,67.5) 31(150,-67.5) 32(150,67.5) 33(200,-67.5) 34(200,67.5) 35(250,-67.5) 36(250,67.5) 37(300,-67.5) 38(300,67.5) 39(350,-67.5) 40(350,67.5) 41(400,-67.5) 42(400,67.5) 43(450,-67.5) 44(450,67.5) 45(500,-67.5) 46(500,67.5) 47(550,-67.5) 48(550,67.5) 49(600,-67.5) 50(600,67.5)
  round 70 hole 56: MH1(-662.5,0) MH2(662.5,0)
Top Overlay:
  lines w2: -687.5,-112.5 687.5,-112.5 687.5,112.5 -687.5,112.5 -687.5,-112.5